# Altium footprint library SOP.PcbLib: 58 footprints (part 1 of 4)
Each footprint in its own frame and in the unit in brackets; x right, y up, seen from the top. Pads: shape width x height; smd on the part's side, far side on the other; paste and mask are expansions set on the pad; w line width, h text height; cw(c..) or ccw(c..) is an arc to the next point about the centre after c.
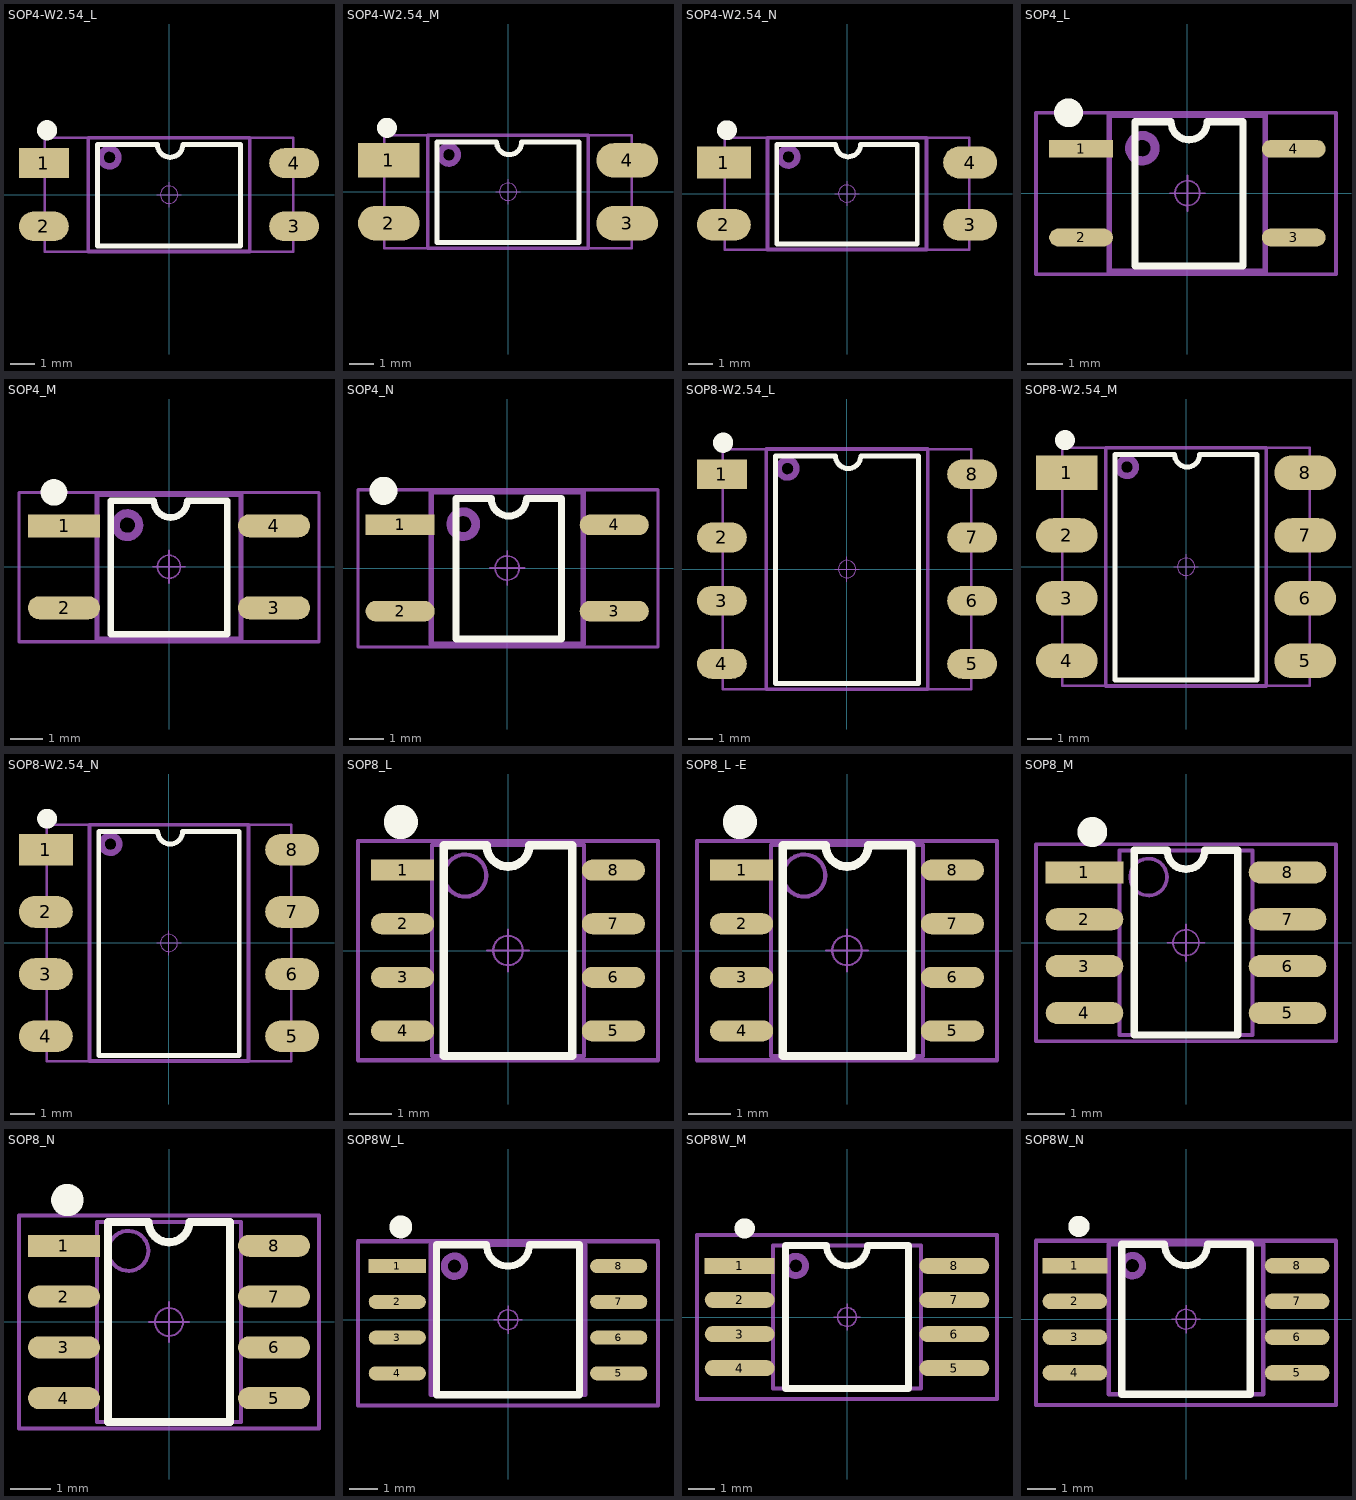
[diagram p0: the footprints below, top view; thin cyan lines are the x and y axes]

## SOP4-W2.54_L [mm] "6.5*4.58*3.5mm（长宽高）"
pads (4):
  rect 2x1.2 smd: 1(-5.029,1.27)
  oval 2x1.2 smd: 2(-5.029,-1.27) 3(5.029,-1.27) 4(5.029,1.27)
Top Overlay:
  circle w0.5: c-4.904,2.591 r0.155
  lines w0.2: -2.87,2.012 -2.87,-2.052 2.87,-2.052 2.87,2.012
  lines w0.203: -2.87,2.012 -0.46,2.012 ccw(c0.048,2.012) 0.048,1.504 ccw(c0.048,2.012) 0.556,2.012 2.87,2.012
Mechanical 13:
  circle w0.254: c-2.391,1.499 r0.359
  lines w0.15: -3.25,-2.286 3.25,-2.286 3.25,2.286 -3.25,2.286 -3.25,-2.286
Mechanical 15:
  circle w0.05: c0,0 r0.35
  lines w0.05: -0.5,0 0.5,0 ; 0,-0.5 0,0.5
  lines w0.1: -5.004,-2.286 5.004,-2.286 5.004,2.286 -5.004,2.286 -5.004,-2.286
3D body "SOP-4 6.5.STEP": height 3.83, standoff -0.02, extent -5,-2.29 5,2.29

## SOP4-W2.54_M [mm] "6.5*4.58*3.5mm（长宽高）"
pads (4):
  rect 2.5x1.4 smd: 1(-4.826,1.27)
  oval 2.5x1.4 smd: 2(-4.826,-1.27) 3(4.826,-1.27) 4(4.826,1.27)
Top Overlay:
  circle w0.5: c-4.904,2.591 r0.155
  lines w0.2: -2.87,2.012 -2.87,-2.052 2.87,-2.052 2.87,2.012
  lines w0.203: -2.87,2.012 -0.46,2.012 ccw(c0.048,2.012) 0.048,1.504 ccw(c0.048,2.012) 0.556,2.012 2.87,2.012
Mechanical 13:
  circle w0.254: c-2.391,1.499 r0.359
  lines w0.15: -3.25,-2.286 3.25,-2.286 3.25,2.286 -3.25,2.286 -3.25,-2.286
Mechanical 15:
  circle w0.05: c0,0 r0.35
  lines w0.05: -0.5,0 0.5,0 ; 0,-0.5 0,0.5
  lines w0.1: -5.004,-2.286 5.004,-2.286 5.004,2.286 -5.004,2.286 -5.004,-2.286
3D body "SOP-4 6.5.STEP": height 3.83, standoff -0.02, extent -5,-2.29 5,2.29

## SOP4-W2.54_N [mm] "6.5*4.58*3.5mm（长宽高）"
pads (4):
  rect 2.2x1.3 smd: 1(-5.029,1.27)
  oval 2.2x1.3 smd: 2(-5.029,-1.27) 3(5.029,-1.27) 4(5.029,1.27)
Top Overlay:
  circle w0.5: c-4.904,2.591 r0.155
  lines w0.2: -2.87,2.012 -2.87,-2.052 2.87,-2.052 2.87,2.012
  lines w0.203: -2.87,2.012 -0.46,2.012 ccw(c0.048,2.012) 0.048,1.504 ccw(c0.048,2.012) 0.556,2.012 2.87,2.012
Mechanical 13:
  circle w0.254: c-2.391,1.499 r0.359
  lines w0.15: -3.25,-2.286 3.25,-2.286 3.25,2.286 -3.25,2.286 -3.25,-2.286
Mechanical 15:
  circle w0.05: c0,0 r0.35
  lines w0.05: -0.5,0 0.5,0 ; 0,-0.5 0,0.5
  lines w0.1: -5.004,-2.286 5.004,-2.286 5.004,2.286 -5.004,2.286 -5.004,-2.286
3D body "SOP-4 6.5.STEP": height 3.83, standoff -0.02, extent -5,-2.29 5,2.29

## SOP4_L [mm] "4.4*6.8*2.1mm（长宽高）"
pads (4):
  rect 1.8x0.5 smd: 1(-3,1.25)
  oval 1.8x0.5 smd: 2(-3,-1.25) 3(3,-1.25) 4(3,1.25)
Top Overlay:
  circle w0.5: c-3.353,2.266 r0.155
  lines w0.2: -1.476,2.012 -1.476,-2.052 1.572,-2.052 1.572,2.012
  lines w0.203: -1.476,2.012 -0.46,2.012 ccw(c0.048,2.012) 0.048,1.504 ccw(c0.048,2.012) 0.556,2.012 1.572,2.012
Mechanical 13:
  circle w0.254: c-1.27,1.27 r0.359
  lines w0.15: -2.2,-2.2 2.2,-2.2 2.2,2.2 -2.2,2.2 -2.2,-2.2
Mechanical 15:
  circle w0.05: c0,0 r0.35
  lines w0.05: -0.5,0 0.5,0 ; 0,-0.5 0,0.5
  lines w0.1: -4.27,-2.286 -4.27,2.266 4.191,2.266 4.191,-2.286 -4.27,-2.286
3D body "SOP4.STEP": height 1.9, standoff 0, extent -3.403,-2.15 3.403,2.15

## SOP4_M [mm] "4.4*6.8*2.1mm（长宽高）"
pads (4):
  rect 2.2x0.7 smd: 1(-3.2,1.25)
  oval 2.2x0.7 smd: 2(-3.2,-1.25) 3(3.2,-1.25) 4(3.2,1.25)
Top Overlay:
  circle w0.5: c-3.505,2.266 r0.155
  lines w0.2: -1.778,2.012 -1.778,-2.052 1.778,-2.052 1.778,2.012
  lines w0.203: -1.778,2.012 -0.46,2.012 ccw(c0.048,2.012) 0.048,1.504 ccw(c0.048,2.012) 0.556,2.012 1.778,2.012
Mechanical 13:
  circle w0.254: c-1.27,1.27 r0.359
  lines w0.15: -2.2,-2.2 2.2,-2.2 2.2,2.2 -2.2,2.2 -2.2,-2.2
Mechanical 15:
  circle w0.05: c0,0 r0.35
  lines w0.05: -0.5,0 0.5,0 ; 0,-0.5 0,0.5
  lines w0.1: -4.572,-2.286 4.572,-2.286 4.572,2.266 -4.572,2.266 -4.572,-2.286
3D body "SOP4.STEP": height 1.9, standoff 0, extent -3.403,-2.15 3.403,2.15

## SOP4_N [mm] "4.4*6.8*2.1mm（长宽高）"
pads (4):
  rect 2x0.6 smd: 1(-3.1,1.25)
  oval 2x0.6 smd: 2(-3.1,-1.25) 3(3.1,-1.25) 4(3.1,1.25)
Top Overlay:
  circle w0.5: c-3.581,2.235 r0.155
  lines w0.2: -1.476,2.012 -1.476,-2.052 1.572,-2.052 1.572,2.012
  lines w0.203: -1.476,2.012 -0.46,2.012 ccw(c0.048,2.012) 0.048,1.504 ccw(c0.048,2.012) 0.556,2.012 1.572,2.012
Mechanical 13:
  circle w0.254: c-1.27,1.27 r0.359
  lines w0.15: -2.2,-2.2 2.2,-2.2 2.2,2.2 -2.2,2.2 -2.2,-2.2
Mechanical 15:
  circle w0.05: c0,0 r0.35
  lines w0.05: -0.5,0 0.5,0 ; 0,-0.5 0,0.5
  lines w0.1: -4.318,-2.286 4.366,-2.286 4.366,2.266 -4.318,2.266 -4.318,-2.286
3D body "SOP4.STEP": height 1.9, standoff 0, extent -3.403,-2.15 3.403,2.15

## SOP8-W2.54_L [mm] "6.5*9.66*3.5mm（长宽高）"
pads (8):
  rect 2x1.2 smd: 1(-5.029,3.81)
  oval 2x1.2 smd: 2(-5.029,1.27) 3(-5.029,-1.27) 4(-5.029,-3.81) 5(5.029,-3.81) 6(5.029,-1.27) 7(5.029,1.27) 8(5.029,3.81)
Top Overlay:
  circle w0.5: c-4.98,5.08 r0.155
  lines w0.2: -2.87,4.552 -2.87,-4.592 2.87,-4.592 2.87,4.552
  lines w0.203: -2.87,4.552 -0.46,4.552 ccw(c0.048,4.552) 0.048,4.044 ccw(c0.048,4.552) 0.556,4.552 2.87,4.552
Mechanical 13:
  circle w0.254: c-2.391,4.039 r0.359
  lines w0.15: -3.25,-4.826 3.25,-4.826 3.25,4.826 -3.25,4.826 -3.25,-4.826
Mechanical 15:
  circle w0.05: c0,0 r0.35
  lines w0.05: -0.5,0 0.5,0 ; 0,-0.5 0,0.5
  lines w0.1: -5.004,-4.826 5.004,-4.826 5.004,4.826 -5.004,4.826 -5.004,-4.826
3D body "SOP8-W2.54.STEP": height 3.82, standoff -0.03, extent -5,-4.83 5,4.83

## SOP8-W2.54_M [mm] "6.5*9.66*3.5mm（长宽高）"
pads (8):
  rect 2.5x1.4 smd: 1(-4.826,3.81)
  oval 2.5x1.4 smd: 2(-4.826,1.27) 3(-4.826,-1.27) 4(-4.826,-3.81) 5(4.826,-3.81) 6(4.826,-1.27) 7(4.826,1.27) 8(4.826,3.81)
Top Overlay:
  circle w0.5: c-4.904,5.131 r0.155
  lines w0.2: -2.87,4.552 -2.87,-4.592 2.87,-4.592 2.87,4.552
  lines w0.203: -2.87,4.552 -0.46,4.552 ccw(c0.048,4.552) 0.048,4.044 ccw(c0.048,4.552) 0.556,4.552 2.87,4.552
Mechanical 13:
  circle w0.254: c-2.391,4.039 r0.359
  lines w0.15: -3.25,-4.826 -3.25,4.826 3.25,4.826 3.25,-4.826 -3.25,-4.826
Mechanical 15:
  circle w0.05: c0,0 r0.35
  lines w0.05: -0.5,0 0.5,0 ; 0,-0.5 0,0.5
  lines w0.1: -5.004,-4.826 -5.004,4.826 5.004,4.826 5.004,-4.826 -5.004,-4.826
3D body "SOP8-W2.54.STEP": height 3.82, standoff -0.03, extent -5,-4.83 5,4.83

## SOP8-W2.54_N [mm] "6.5*9.66*3.5mm（长宽高）"
pads (8):
  rect 2.2x1.3 smd: 1(-5.029,3.81)
  oval 2.2x1.3 smd: 2(-5.029,1.27) 3(-5.029,-1.27) 4(-5.029,-3.81) 5(5.029,-3.81) 6(5.029,-1.27) 7(5.029,1.27) 8(5.029,3.81)
Top Overlay:
  circle w0.5: c-4.98,5.08 r0.155
  lines w0.2: -2.87,4.552 -2.87,-4.592 2.87,-4.592 2.87,4.552
  lines w0.203: -2.87,4.552 -0.46,4.552 ccw(c0.048,4.552) 0.048,4.044 ccw(c0.048,4.552) 0.556,4.552 2.87,4.552
Mechanical 13:
  circle w0.254: c-2.391,4.039 r0.359
  lines w0.15: -3.25,-4.826 3.25,-4.826 3.25,4.826 -3.25,4.826 -3.25,-4.826
Mechanical 15:
  circle w0.05: c0,0 r0.35
  lines w0.05: -0.5,0 0.5,0 ; 0,-0.5 0,0.5
  lines w0.1: -5.004,-4.826 5.004,-4.826 5.004,4.826 -5.004,4.826 -5.004,-4.826
3D body "SOP8-W2.54.STEP": height 3.82, standoff -0.03, extent -5,-4.83 5,4.83

## SOP8_L [mm] "5*6*1.8mm（长宽高）"
height 1.75
pads (8):
  rect 1.5x0.5 smd: 1(-2.5,1.905)
  oval 1.5x0.5 smd: 2(-2.5,0.635) 3(-2.5,-0.635) 4(-2.5,-1.905) 5(2.5,-1.905) 6(2.5,-0.635) 7(2.5,0.635) 8(2.5,1.905)
Top Overlay:
  circle w0.5: c-2.54,3.048 r0.155
  lines w0.2: -1.524,2.5 -1.524,-2.5 1.524,-2.5 1.524,2.5
  lines w0.203: -1.524,2.5 -0.508,2.5 ccw(c0,2.5) 0,1.992 ccw(c0,2.5) 0.508,2.5 1.524,2.5
Mechanical 13:
  circle w0.1: c-1.016,1.778 r0.5
  lines w0.1: -1.8,-2.5 1.8,-2.5 1.8,2.5 -1.8,2.5 -1.8,-2.5
Mechanical 15:
  circle w0.05: c0,0 r0.35
  lines w0.05: -0.5,0 0.5,0 ; 0,-0.5 0,0.5
  lines w0.1: -3.556,-2.6 3.556,-2.6 3.556,2.6 -3.556,2.6 -3.556,-2.6
3D body "SOP8.STEP": height 1.9, standoff 0, extent -3.003,-2.5 3.003,2.5

## SOP8_L -E [mm] "5*6*1.8mm（长宽高）"
height 1.75
pads (8):
  rect 1.5x0.5 smd: 1(-2.5,1.905)
  oval 1.5x0.5 smd: 2(-2.5,0.635) 3(-2.5,-0.635) 4(-2.5,-1.905) 5(2.5,-1.905) 6(2.5,-0.635) 7(2.5,0.635) 8(2.5,1.905)
Top Overlay:
  circle w0.5: c-2.54,3.048 r0.155
  lines w0.2: -1.524,2.5 -1.524,-2.5 1.524,-2.5 1.524,2.5
  lines w0.203: -1.524,2.5 -0.508,2.5 ccw(c0,2.5) 0,1.992 ccw(c0,2.5) 0.508,2.5 1.524,2.5
Mechanical 13:
  circle w0.1: c-1.016,1.778 r0.5
  lines w0.1: -1.8,-2.5 1.8,-2.5 1.8,2.5 -1.8,2.5 -1.8,-2.5
Mechanical 15:
  circle w0.05: c0,0 r0.35
  lines w0.05: -0.5,0 0.5,0 ; 0,-0.5 0,0.5
  lines w0.1: -3.556,-2.6 3.556,-2.6 3.556,2.6 -3.556,2.6 -3.556,-2.6
3D body "SOP8.STEP": height 1.9, standoff 0, extent -3.003,-2.5 3.003,2.5

## SOP8_M [mm] "5*6*1.8mm（长宽高）"
height 1.75
pads (8):
  rect 2.1x0.6 smd: 1(-2.75,1.905)
  oval 2.1x0.6 smd: 2(-2.75,0.635) 3(-2.75,-0.635) 4(-2.75,-1.905) 5(2.75,-1.905) 6(2.75,-0.635) 7(2.75,0.635) 8(2.75,1.905)
Top Overlay:
  circle w0.5: c-2.54,3 r0.155
  lines w0.2: -1.397,2.5 -1.397,-2.5 1.397,-2.5 1.397,2.5
  lines w0.203: -1.397,2.5 -0.508,2.5 ccw(c0,2.5) 0,1.992 ccw(c0,2.5) 0.508,2.5 1.397,2.5
Mechanical 13:
  circle w0.1: c-1.016,1.778 r0.5
  lines w0.1: -1.8,-2.5 1.8,-2.5 1.8,2.5 -1.8,2.5 -1.8,-2.5
Mechanical 15:
  circle w0.05: c0,0 r0.35
  lines w0.05: -0.5,0 0.5,0 ; 0,-0.5 0,0.5
  lines w0.1: -4.064,-2.667 4.064,-2.667 4.064,2.667 -4.064,2.667 -4.064,-2.667
3D body "SOP8.STEP": height 1.9, standoff 0, extent -3.003,-2.5 3.003,2.5

## SOP8_N [mm] "5*6*1.8mm（长宽高）"
height 1.75
pads (8):
  rect 1.8x0.55 smd: 1(-2.625,1.905)
  oval 1.8x0.55 smd: 2(-2.625,0.635) 3(-2.625,-0.635) 4(-2.625,-1.905) 5(2.625,-1.905) 6(2.625,-0.635) 7(2.625,0.635) 8(2.625,1.905)
Top Overlay:
  circle w0.5: c-2.54,3.048 r0.155
  lines w0.2: -1.524,2.5 -1.524,-2.5 1.524,-2.5 1.524,2.5
  lines w0.203: -1.524,2.5 -0.508,2.5 ccw(c0,2.5) 0,1.992 ccw(c0,2.5) 0.508,2.5 1.524,2.5
Mechanical 13:
  circle w0.1: c-1.016,1.778 r0.5
  lines w0.1: -1.8,-2.5 -1.8,2.5 1.8,2.5 1.8,-2.5 -1.8,-2.5
Mechanical 15:
  circle w0.05: c0,0 r0.35
  lines w0.05: -0.5,0 0.5,0 ; 0,-0.5 0,0.5
  lines w0.1: -3.75,-2.667 3.75,-2.667 3.75,2.667 -3.75,2.667 -3.75,-2.667
3D body "SOP8.STEP": height 1.9, standoff 0, extent -3.003,-2.5 3.003,2.5

## SOP8W_L [mm] "5.3*8.3*1.8mm（长宽高）"
pads (8):
  rect 2.032x0.5 smd: 1(-3.937,1.905)
  oval 2.032x0.5 smd: 2(-3.937,0.635) 3(-3.937,-0.635) 4(-3.937,-1.905) 5(3.937,-1.905) 6(3.937,-0.635) 7(3.937,0.635) 8(3.937,1.905)
Top Overlay:
  circle w0.5: c-3.81,3.302 r0.155
  lines w0.254: -2.54,-2.667 -2.54,2.667 -0.762,2.667 ccw(c0,2.667) 0.762,2.667 2.54,2.667 2.54,-2.667 -2.54,-2.667
Mechanical 13:
  circle w0.254: c-1.905,1.905 r0.359
  lines w0.15: -2.75,-2.667 2.75,-2.667 2.75,2.667 -2.75,2.667 -2.75,-2.667
Mechanical 15:
  circle w0.05: c0,0 r0.35
  lines w0.05: -0.5,0 0.5,0 ; 0,-0.5 0,0.5
  lines w0.15: -5.334,-3.048 -5.334,2.794 5.334,2.794 5.334,-3.048 -5.334,-3.048
3D body "SOP8W.STEP": height 1.9, standoff 0, extent -3.943,-2.64 3.943,2.64

## SOP8W_M [mm] "5.3*8.3*1.8mm（长宽高）"
pads (8):
  rect 2.6x0.6 smd: 1(-4,1.905)
  oval 2.6x0.6 smd: 2(-4,0.635) 3(-4,-0.635) 4(-4,-1.905) 5(4,-1.905) 6(4,-0.635) 7(4,0.635) 8(4,1.905)
Top Overlay:
  circle w0.5: c-3.81,3.302 r0.127
  lines w0.254: -2.286,-2.667 -2.286,2.667 -0.762,2.667 ccw(c0,2.667) 0.762,2.667 2.286,2.667 2.286,-2.667 -2.286,-2.667
Mechanical 13:
  circle w0.254: c-1.905,1.905 r0.359
  lines w0.15: -2.75,-2.667 2.75,-2.667 2.75,2.667 -2.75,2.667 -2.75,-2.667
Mechanical 15:
  circle w0.05: c0,0 r0.35
  lines w0.05: -0.5,0 0.5,0 ; 0,-0.5 0,0.5
  lines w0.15: -5.588,-3.048 -5.588,3.048 5.588,3.048 5.588,-3.048 -5.588,-3.048
3D body "SOP8W.STEP": height 1.9, standoff 0, extent -3.943,-2.64 3.943,2.64

## SOP8W_N [mm] "5.3*8.3*1.8mm（长宽高）"
pads (8):
  rect 2.3x0.55 smd: 1(-3.95,1.905)
  oval 2.3x0.55 smd: 2(-3.95,0.635) 3(-3.95,-0.635) 4(-3.95,-1.905) 5(3.95,-1.905) 6(3.95,-0.635) 7(3.95,0.635) 8(3.95,1.905)
Top Overlay:
  circle w0.5: c-3.81,3.302 r0.127
  lines w0.254: -2.286,-2.667 2.286,-2.667 2.286,2.667 0.762,2.667 cw(c0,2.667) -0.762,2.667 -2.286,2.667 -2.286,-2.667
Mechanical 13:
  circle w0.254: c-1.905,1.905 r0.359
  lines w0.15: -2.75,-2.667 2.75,-2.667 2.75,2.667 -2.75,2.667 -2.75,-2.667
Mechanical 15:
  circle w0.05: c0,0 r0.35
  lines w0.05: -0.5,0 0.5,0 ; 0,-0.5 0,0.5
  lines w0.15: -5.334,-3.048 -5.334,2.794 5.334,2.794 5.334,-3.048 -5.334,-3.048
3D body "SOP8W.STEP": height 1.9, standoff 0, extent -3.943,-2.64 3.943,2.64